# Altium footprint library MSOP-10.PcbLib: 1 footprints
Each footprint in its own frame and in the unit in brackets; x right, y up, seen from the top. Pads: shape width x height; smd on the part's side, far side on the other; paste and mask are expansions set on the pad; w line width, h text height; cw(c..) or ccw(c..) is an arc to the next point about the centre after c.
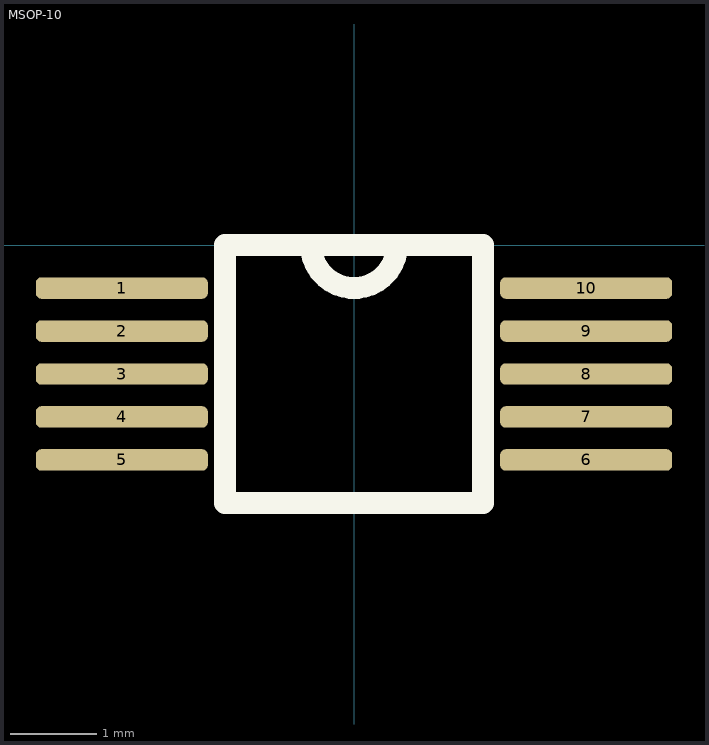
[diagram p0: the footprint, top view; thin cyan lines are the x and y axes]

## MSOP-10 [mm]
pads (10):
  rrect50% 2x0.25 smd: 1(-2.7,-0.5) 2(-2.7,-1) 3(-2.7,-1.5) 4(-2.7,-2) 5(-2.7,-2.5) 6(2.7,-2.5) 7(2.7,-2) 8(2.7,-1.5) 9(2.7,-1) 10(2.7,-0.5)
Top Overlay:
  lines w0.254: -0.5,0 ccw(c0,0) 0.5,0 ; -1.5,-3 -1.5,0 1.5,0 1.5,-3 -1.5,-3